# Altium schematic symbol library ESQ-120-69-G-D-LL.SchLib: 1 symbol
Pins are listed as number, name and electrical type; pins without a type are passive.

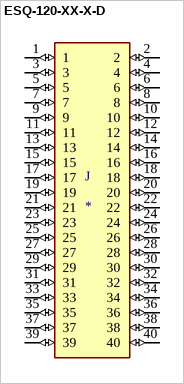
[diagram p0: symbol ESQ-120-XX-X-D]

## ESQ-120-XX-X-D
designator J
ESQ Series .100 PC/104â„¢ Elevated Socket Strip; MP: ESQ-120-38-S-D; MF: Samtec; Digi-Key_Purchase_URL: https://www.digikey.com/product-detail/en/samtec-inc/ESQ-120-38-S-D/ESQ-120-38-S-D-ND/7098755?utm_source=snapeda&utm_medium=aggregator&utm_campaign=symbol; SnapEDA_Link: https://www.snapeda.com/parts/ESQ-120-38-S-D/Samtec%20Inc/view-part/786160/?ref=snap; Digi-Key_Part_Number: ESQ-120-38-S-D-ND; Value: *; Package: None
footprint ESQ-120-XX-X-D
pins: 1 (io), 2 (io), 3 (io), 4 (io), 5 (io), 6 (io), 7 (io), 8 (io), 9 (io), 10 (io), 11 (io), 12 (io), 13 (io), 14 (io), 15 (io), 16 (io), 17 (io), 18 (io), 19 (io), 20 (io), 21 (io), 22 (io), 23 (io), 24 (io), 25 (io), 26 (io), 27 (io), 28 (io), 29 (io), 30 (io), 31 (io), 32 (io), 33 (io), 34 (io), 35 (io), 36 (io), 37 (io), 38 (io), 39 (io), 40 (io)